# EAGLE library part 691311700006 (library Wurth_Elektronik_Electromechanic_Terminal_Blocks_Connectors_rev15c)
WR-TBL Serie 3117 - 5.0mm Open Vertical PCB Header , 6 Pins=>Code : Con_TBL_Pluggable_5.00_PCB_V_691311700006 <http://katalog.we-online.de/media/images/eican/Con_TBL_Pluggable_5.00_PCB_V_6913117000xx_pf2.jpg> Details see: http://katalog.we-online.de/en/em/691_311_700_0xx Created 2014-06-19, Karrer Zheng 2014 (C) Würth Elektronik
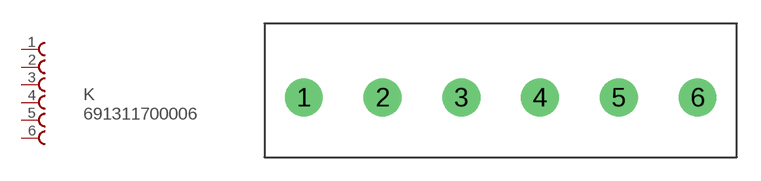
[diagram p62: symbol with the pads of 691311700006; footprint 691311700006]

Designator prefix K

## 691311700006  [691311700006]
1  1  pas
2  2  pas
3  3  pas
4  4  pas
5  5  pas
6  6  pas

## Footprint 691311700006 (pad centres in mm)
WR-TBL Serie 3117 - 5.0mm Open Vertical PCB Header , 6 Pins
drill 1.6: 1 -15,0; 2 -10,0; 3 -5,0; 4 0,0; 5 5,0; 6 10,0